# EAGLE library part 74LS247 (library RadioStack_v2)
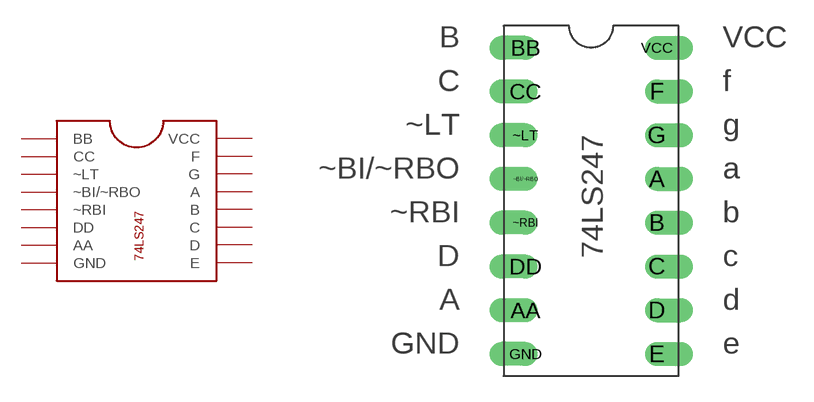
[diagram p7: symbol with the pads of 74LS247; footprint 74LS247]

Designator prefix -

## 74LS247  [74LS247]
A  A
AA  AA
B  B
BB  BB
C  C
CC  CC
D  D
DD  DD
E  E
F  F
G  G
GND  GND
VCC  VCC
~BI/~RBO  ~BI/~RBO
~LT  ~LT
~RBI  ~RBI

## Footprint 74LS247 (pad centres in mm)
drill 0.889 pad 1.27 offset: A 7.62,-7.62; AA 0,-15.24; B 7.62,-10.16; BB 0,0; C 7.62,-12.7; CC 0,-2.54; D 7.62,-15.24; DD 0,-12.7; E 7.62,-17.78; F 7.62,-2.54; G 7.62,-5.08; GND 0,-17.78; VCC 7.62,0; ~BI/~RBO 0,-7.62; ~LT 0,-5.08; ~RBI 0,-10.16